# Altium footprint library BMS-TEMPSTRIP.pcblib: 2 footprints
Each footprint in its own frame and in the unit in brackets; x right, y up, seen from the top. Pads: shape width x height; smd on the part's side, far side on the other; paste and mask are expansions set on the pad; w line width, h text height; cw(c..) or ccw(c..) is an arc to the next point about the centre after c.
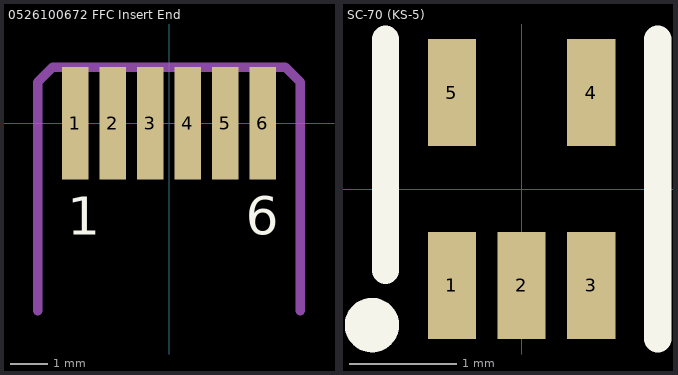
[diagram p0: the footprints below, top view; thin cyan lines are the x and y axes]

## 0526100672 FFC Insert End [mm]
pads (6):
  rect 0.7x3 smd: 1(-2.5,0) 2(-1.5,0) 3(-0.5,0) 4(0.5,0) 5(1.5,0) 6(2.5,0)
Top Overlay:
  text "1" at -2.718,-2.972 h1.02
  text "6" at 2.041,-2.972 h1.02
Mechanical 1:
  lines w0.254: -3.5,-5 -3.5,1.1 -3.1,1.5 3.1,1.5 3.5,1.1 3.5,-5
Stiffener:
  lines w0.254: -3.5,-5 -3.5,1.1 -3.1,1.5 3.1,1.5 3.5,1.1 3.5,-5

## SC-70 (KS-5) [mm]
pads (5):
  rect 0.45x1 smd: 1(-0.65,-0.9) 2(0,-0.9) 3(0.65,-0.9) 4(0.65,0.9) 5(-0.65,0.9)
Top Overlay:
  circle w0.254: c-1.397,-1.27 r0.127
  lines w0.254: -1.27,-0.762 -1.27,1.397 ; 1.27,-1.397 1.27,1.397
3D body "sc70_model.STEP": height 0.94, standoff -0.01, extent -0.984,-1.05 1.016,1.05